# EAGLE library part TPS2511 (library PP_PowerIC)
Manufacturer Part #: TPS2511 Manufacturer: Texas Instruments Description: Power Switch ICs - Power Distribution Charging Port Cntrlr & Crnt Ltd Pwr Sw
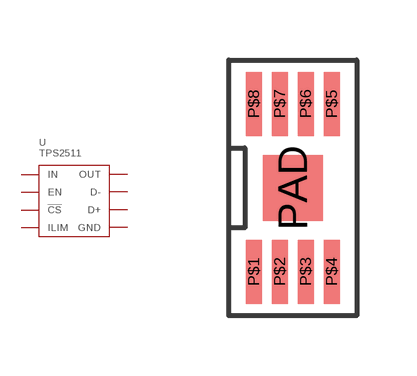
[diagram p6: symbol with the pads of TPS2511_HVSSOP-8; footprint TPS2511_HVSSOP-8]

Designator prefix U

## TPS2511  [TPS2511_HVSSOP-8]
P$1  GND
P$2  ILIM
P$3  IN
P$4  !CS
P$5  EN
P$6  D+
P$7  D-
P$8  OUT
PAD  GND

## Footprint TPS2511_HVSSOP-8 (pad centres in mm)
smd 0.4 x 1.6: P$1 -0.975,-2.1; P$2 -0.325,-2.1; P$3 0.325,-2.1; P$4 0.975,-2.1; P$5 0.975,2.1; P$6 0.325,2.1; P$7 -0.325,2.1; P$8 -0.975,2.1
smd 1.5 x 1.65: PAD 0,0